# Altium integrated library Microchip dsPIC33F.IntLib: 775 symbols (part 8 of 44)
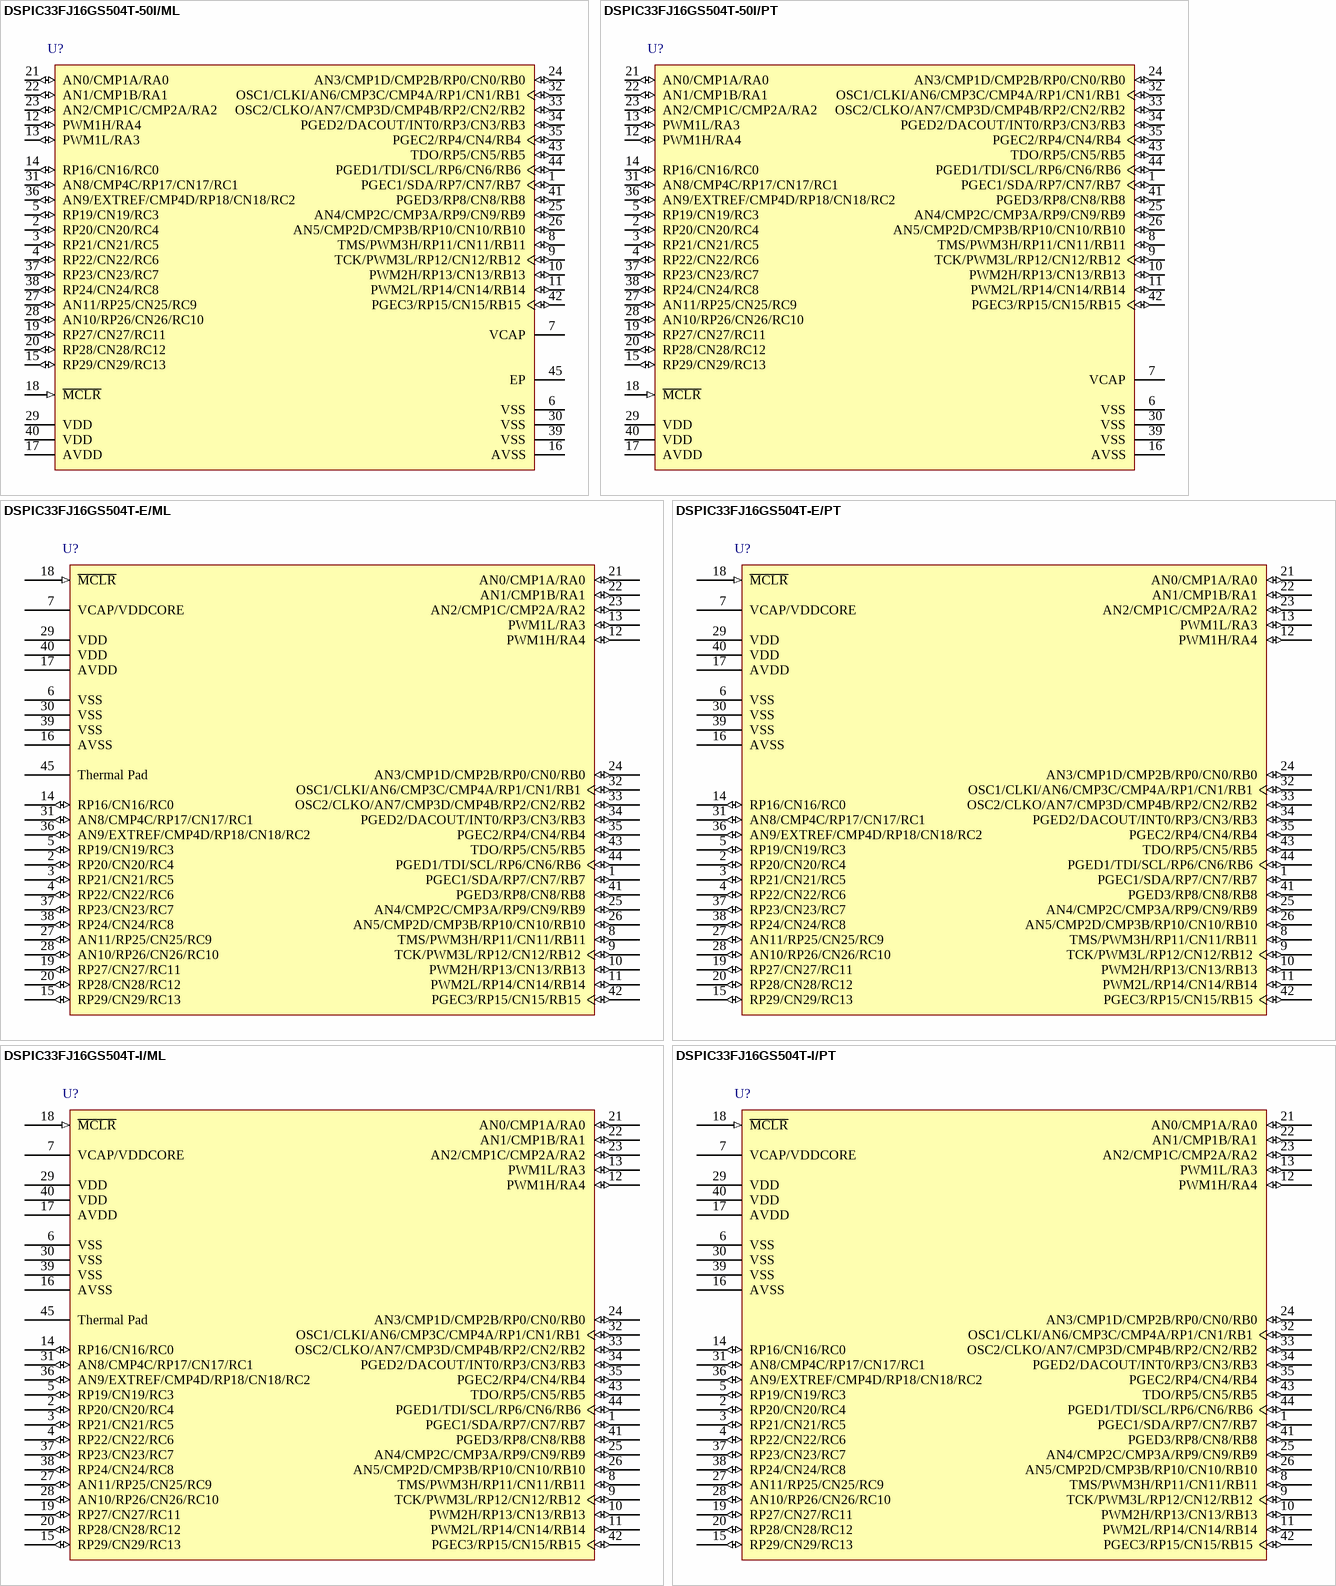
[diagram p165: symbols DSPIC33FJ16GS504T-50I/ML to DSPIC33FJ16GS504T-I/PT]

## DSPIC33FJ16GS504T-50I/PT
designator U?
16-Bit Digital Signal Controller with High-Speed PWM, ADC, and Comparators, 50 MIPS, 35 I/O, GPIO, -40 to 85 degC, 44-pin TQFP (PT44), Tape and Reel; Manufacturer: Microchip; PartNumber: DSPIC33FJ16GS504T-50I/PT; DatasheetVersion: Rev. F; PackageVersion: C04-076B; PackageReference: TQFP-PT44; PackageDescription: 44-Lead Plastic Thin Quad Flatpack, 10 x 10 mm Body, 0.8 mm Pitch; Supplier 1: Digi-Key; Supplier Part Number 1: DSPIC33FJ16GS504T-50I/PT-ND; Supplier 2: Newark; Supplier Part Number 2: 94T7377; Supplier 3: Mouser; Supplier Part Number 3: 579-33J16GS504T50IPT; Mounting Technology: Surface Mount; ComponentLink1Description: Manufacturer URL; ComponentLink1URL: http://www.microchip.com; ComponentLink2Description: Datasheet; ComponentLink2URL: http://ww1.microchip.com/downloads/en/DeviceDoc/70318F.pdf; ComponentLink3Description: Package Specification; ComponentLink3URL: http://www.microchip.com/stellent/groups/techpub_sg/documents/packagingspec/en012702.pdf; ComponentLink4Description: Product URL; ComponentLink4URL: http://www.microchip.com/dsPIC33FJ16GS504
footprint MCHP-TQFP-PT44_N (QFN, 44-Leads, Body 10x10mm, Pitch 0.8mm, IPC Medium Density)
footprint MCHP-TQFP-PT44_L (QFN, 44-Leads, Body 10x10mm, Pitch 0.8mm, IPC High Density)
footprint MCHP-TQFP-PT44_M (QFN, 44-Leads, Body 10x10mm, Pitch 0.8mm, IPC Low Density)
pins: 1 PGEC1/SDA/RP7/CN7/RB7 (io), 2 RP20/CN20/RC4 (io), 3 RP21/CN21/RC5 (io), 4 RP22/CN22/RC6 (io), 5 RP19/CN19/RC3 (io), 6 VSS (power) "Ground reference for logic and I/O pins.", 7 VCAP "CPU logic filter capacitor connection.", 8 TMS/PWM3H/RP11/CN11/RB11 (io), 9 TCK/PWM3L/RP12/CN12/RB12 (io), 10 PWM2H/RP13/CN13/RB13 (io), 11 PWM2L/RP14/CN14/RB14 (io), 12 PWM1H/RA4 (io), 13 PWM1L/RA3 (io), 14 RP16/CN16/RC0 (io), 15 RP29/CN29/RC13 (io), 16 AVSS (power) "Ground reference for analog modules. This pin must be connected at all times.", 17 AVDD (power) "Positive supply for analog modules. This pin must be connected at all times.", 18 ~{MCLR} (in) "Master Clear (Reset) input. This pin is an active-low Reset to the device.", 19 RP27/CN27/RC11 (io), 20 RP28/CN28/RC12 (io), 21 AN0/CMP1A/RA0 (io), 22 AN1/CMP1B/RA1 (io), 23 AN2/CMP1C/CMP2A/RA2 (io), 24 AN3/CMP1D/CMP2B/RP0/CN0/RB0 (io), 25 AN4/CMP2C/CMP3A/RP9/CN9/RB9 (io), 26 AN5/CMP2D/CMP3B/RP10/CN10/RB10 (io), 27 AN11/RP25/CN25/RC9 (io), 28 AN10/RP26/CN26/RC10 (io), 29 VDD (power) "Positive supply for peripheral logic and I/O pins.", 30 VSS (power) "Ground reference for logic and I/O pins.", 31 AN8/CMP4C/RP17/CN17/RC1 (io), 32 OSC1/CLKI/AN6/CMP3C/CMP4A/RP1/CN1/RB1 (io), 33 OSC2/CLKO/AN7/CMP3D/CMP4B/RP2/CN2/RB2 (io), 34 PGED2/DACOUT/INT0/RP3/CN3/RB3 (io), 35 PGEC2/RP4/CN4/RB4 (io), 36 AN9/EXTREF/CMP4D/RP18/CN18/RC2 (io), 37 RP23/CN23/RC7 (io), 38 RP24/CN24/RC8 (io), 39 VSS (power) "Ground Reference for Logic and I/O Pins", 40 VDD (power) "Positive Supply for Peripheral Digital Logic and I/O Pins", 41 PGED3/RP8/CN8/RB8 (io), 42 PGEC3/RP15/CN15/RB15 (io), 43 TDO/RP5/CN5/RB5 (io), 44 PGED1/TDI/SCL/RP6/CN6/RB6 (io)

## DSPIC33FJ16GS504T-E/ML
designator U?
High-Performance 16-bit Digital Signal Controller, 16 KB Flash, 2 KB RAM , 44-Pin QFN, Extended High Temperature , Tape and Reel; Manufacturer: Microchip; PartNumber: DSPIC33FJ16GS504T-E/ML; DatasheetVersion: revD, Mar-2009; PackageVersion: revBB, Aug-2009; PackageReference: QFN-ML44; PackageDescription: 44-Lead Plastic Quad Flat, No Lead Package (ML) - 8x8 mm Body [QFN]; Mounting Technology: Surface Mount; Code_JEDEC: MO-220; Code_IPC: QFN65P800X800-44V2; ComponentLink1Description: Manufacturer URL; ComponentLink1URL: http://www.microchip.com/; ComponentLink2Description: Datasheet; ComponentLink2URL: http://ww1.microchip.com/downloads/en/DeviceDoc/70318D.pdf; ComponentLink3Description: Package Specification; ComponentLink3URL: http://www.microchip.com/stellent/groups/techpub_sg/documents/packagingspec/en012702.pdf
footprint QFN-ML44_N (QFN, 44-Leads, Body 8x8mm, Pitch 0.65mm, Thermal Pad 6.8x6.8mm, IPC Medium Density)
footprint QFN-ML44_L (QFN, 44-Leads, Body 8x8mm, Pitch 0.65mm, Thermal Pad 6.8x6.8mm, IPC High Density)
footprint QFN-ML44_M (QFN, 44-Leads, Body 8x8mm, Pitch 0.65mm, Thermal Pad 6.8x6.8mm, IPC Low Density)
pins: 1 PGEC1/SDA/RP7/CN7/RB7 (io), 2 RP20/CN20/RC4 (io), 3 RP21/CN21/RC5 (io), 4 RP22/CN22/RC6 (io), 5 RP19/CN19/RC3 (io), 6 VSS (power), 7 VCAP/VDDCORE (power), 8 TMS/PWM3H/RP11/CN11/RB11 (io), 9 TCK/PWM3L/RP12/CN12/RB12 (io), 10 PWM2H/RP13/CN13/RB13 (io), 11 PWM2L/RP14/CN14/RB14 (io), 12 PWM1H/RA4 (io), 13 PWM1L/RA3 (io), 14 RP16/CN16/RC0 (io), 15 RP29/CN29/RC13 (io), 16 AVSS (power), 17 AVDD (power), 18 ~{MCLR} (in), 19 RP27/CN27/RC11 (io), 20 RP28/CN28/RC12 (io), 21 AN0/CMP1A/RA0 (io), 22 AN1/CMP1B/RA1 (io), 23 AN2/CMP1C/CMP2A/RA2 (io), 24 AN3/CMP1D/CMP2B/RP0/CN0/RB0 (io), 25 AN4/CMP2C/CMP3A/RP9/CN9/RB9 (io), 26 AN5/CMP2D/CMP3B/RP10/CN10/RB10 (io), 27 AN11/RP25/CN25/RC9 (io), 28 AN10/RP26/CN26/RC10 (io), 29 VDD (power), 30 VSS (power), 31 AN8/CMP4C/RP17/CN17/RC1 (io), 32 OSC1/CLKI/AN6/CMP3C/CMP4A/RP1/CN1/RB1 (io), 33 OSC2/CLKO/AN7/CMP3D/CMP4B/RP2/CN2/RB2 (io), 34 PGED2/DACOUT/INT0/RP3/CN3/RB3 (io), 35 PGEC2/RP4/CN4/RB4 (io), 36 AN9/EXTREF/CMP4D/RP18/CN18/RC2 (io), 37 RP23/CN23/RC7 (io), 38 RP24/CN24/RC8 (io), 39 VSS (power), 40 VDD (power), 41 PGED3/RP8/CN8/RB8 (io), 42 PGEC3/RP15/CN15/RB15 (io), 43 TDO/RP5/CN5/RB5 (io), 44 PGED1/TDI/SCL/RP6/CN6/RB6 (io), 45 Thermal Pad

## DSPIC33FJ16GS504T-E/PT
designator U?
High-Performance 16-bit Digital Signal Controller, 16 KB Flash, 2 KB RAM , 44-Pin TQFP, Extended High Temperature , Tape and Reel; Manufacturer: Microchip; PartNumber: DSPIC33FJ16GS504T-E/PT; DatasheetVersion: revD, Mar-2009; PackageVersion: revBB, Aug-2009; PackageReference: TQFP-PT44; PackageDescription: 44-Lead Plastic Thin Quad Flatpack (PT) - 10x10x1mm Body, 2.00mm [TQFP]; Mounting Technology: Surface Mount; Code_JEDEC: MS-026; ComponentLink1Description: Manufacturer URL; ComponentLink1URL: http://www.microchip.com/; ComponentLink2Description: Datasheet; ComponentLink2URL: http://ww1.microchip.com/downloads/en/DeviceDoc/70318D.pdf; ComponentLink3Description: Package Specification; ComponentLink3URL: http://www.microchip.com/stellent/groups/techpub_sg/documents/packagingspec/en012702.pdf
footprint TQFP-PT44_N (Thin QFP, 44-Leads, Body 10x10mm, Pitch 0.8mm, IPC Medium Density)
footprint TQFP-PT44_L (Thin QFP, 44-Leads, Body 10x10mm, Pitch 0.8mm, IPC High Density)
footprint TQFP-PT44_M (Thin QFP, 44-Leads, Body 10x10mm, Pitch 0.8mm, IPC Low Density)
pins: 1 PGEC1/SDA/RP7/CN7/RB7 (io), 2 RP20/CN20/RC4 (io), 3 RP21/CN21/RC5 (io), 4 RP22/CN22/RC6 (io), 5 RP19/CN19/RC3 (io), 6 VSS (power), 7 VCAP/VDDCORE (power), 8 TMS/PWM3H/RP11/CN11/RB11 (io), 9 TCK/PWM3L/RP12/CN12/RB12 (io), 10 PWM2H/RP13/CN13/RB13 (io), 11 PWM2L/RP14/CN14/RB14 (io), 12 PWM1H/RA4 (io), 13 PWM1L/RA3 (io), 14 RP16/CN16/RC0 (io), 15 RP29/CN29/RC13 (io), 16 AVSS (power), 17 AVDD (power), 18 ~{MCLR} (in), 19 RP27/CN27/RC11 (io), 20 RP28/CN28/RC12 (io), 21 AN0/CMP1A/RA0 (io), 22 AN1/CMP1B/RA1 (io), 23 AN2/CMP1C/CMP2A/RA2 (io), 24 AN3/CMP1D/CMP2B/RP0/CN0/RB0 (io), 25 AN4/CMP2C/CMP3A/RP9/CN9/RB9 (io), 26 AN5/CMP2D/CMP3B/RP10/CN10/RB10 (io), 27 AN11/RP25/CN25/RC9 (io), 28 AN10/RP26/CN26/RC10 (io), 29 VDD (power), 30 VSS (power), 31 AN8/CMP4C/RP17/CN17/RC1 (io), 32 OSC1/CLKI/AN6/CMP3C/CMP4A/RP1/CN1/RB1 (io), 33 OSC2/CLKO/AN7/CMP3D/CMP4B/RP2/CN2/RB2 (io), 34 PGED2/DACOUT/INT0/RP3/CN3/RB3 (io), 35 PGEC2/RP4/CN4/RB4 (io), 36 AN9/EXTREF/CMP4D/RP18/CN18/RC2 (io), 37 RP23/CN23/RC7 (io), 38 RP24/CN24/RC8 (io), 39 VSS (power), 40 VDD (power), 41 PGED3/RP8/CN8/RB8 (io), 42 PGEC3/RP15/CN15/RB15 (io), 43 TDO/RP5/CN5/RB5 (io), 44 PGED1/TDI/SCL/RP6/CN6/RB6 (io)

## DSPIC33FJ16GS504T-I/ML
designator U?
High-Performance 16-bit Digital Signal Controller, 16 KB Flash, 2 KB RAM , 44-Pin QFN, Industrial Temperature , Tape and Reel; Manufacturer: Microchip; PartNumber: DSPIC33FJ16GS504T-I/ML; DatasheetVersion: revD, Mar-2009; PackageVersion: revBB, Aug-2009; PackageReference: QFN-ML44; PackageDescription: 44-Lead Plastic Quad Flat, No Lead Package (ML) - 8x8 mm Body [QFN]; Supplier 1: Digi-Key; Supplier Part Number 1: DSPIC33FJ16GS504T-I/ML-ND; Supplier 2: Mouser; Supplier Part Number 2: 579-DSPIC33GS504TIML; Mounting Technology: Surface Mount; Code_JEDEC: MO-220; Code_IPC: QFN65P800X800-44V2; ComponentLink1Description: Manufacturer URL; ComponentLink1URL: http://www.microchip.com/; ComponentLink2Description: Datasheet; ComponentLink2URL: http://ww1.microchip.com/downloads/en/DeviceDoc/70318D.pdf; ComponentLink3Description: Package Specification; ComponentLink3URL: http://www.microchip.com/stellent/groups/techpub_sg/documents/packagingspec/en012702.pdf
footprint QFN-ML44_N (QFN, 44-Leads, Body 8x8mm, Pitch 0.65mm, Thermal Pad 6.8x6.8mm, IPC Medium Density)
footprint QFN-ML44_L (QFN, 44-Leads, Body 8x8mm, Pitch 0.65mm, Thermal Pad 6.8x6.8mm, IPC High Density)
footprint QFN-ML44_M (QFN, 44-Leads, Body 8x8mm, Pitch 0.65mm, Thermal Pad 6.8x6.8mm, IPC Low Density)
pins: 1 PGEC1/SDA/RP7/CN7/RB7 (io), 2 RP20/CN20/RC4 (io), 3 RP21/CN21/RC5 (io), 4 RP22/CN22/RC6 (io), 5 RP19/CN19/RC3 (io), 6 VSS (power), 7 VCAP/VDDCORE (power), 8 TMS/PWM3H/RP11/CN11/RB11 (io), 9 TCK/PWM3L/RP12/CN12/RB12 (io), 10 PWM2H/RP13/CN13/RB13 (io), 11 PWM2L/RP14/CN14/RB14 (io), 12 PWM1H/RA4 (io), 13 PWM1L/RA3 (io), 14 RP16/CN16/RC0 (io), 15 RP29/CN29/RC13 (io), 16 AVSS (power), 17 AVDD (power), 18 ~{MCLR} (in), 19 RP27/CN27/RC11 (io), 20 RP28/CN28/RC12 (io), 21 AN0/CMP1A/RA0 (io), 22 AN1/CMP1B/RA1 (io), 23 AN2/CMP1C/CMP2A/RA2 (io), 24 AN3/CMP1D/CMP2B/RP0/CN0/RB0 (io), 25 AN4/CMP2C/CMP3A/RP9/CN9/RB9 (io), 26 AN5/CMP2D/CMP3B/RP10/CN10/RB10 (io), 27 AN11/RP25/CN25/RC9 (io), 28 AN10/RP26/CN26/RC10 (io), 29 VDD (power), 30 VSS (power), 31 AN8/CMP4C/RP17/CN17/RC1 (io), 32 OSC1/CLKI/AN6/CMP3C/CMP4A/RP1/CN1/RB1 (io), 33 OSC2/CLKO/AN7/CMP3D/CMP4B/RP2/CN2/RB2 (io), 34 PGED2/DACOUT/INT0/RP3/CN3/RB3 (io), 35 PGEC2/RP4/CN4/RB4 (io), 36 AN9/EXTREF/CMP4D/RP18/CN18/RC2 (io), 37 RP23/CN23/RC7 (io), 38 RP24/CN24/RC8 (io), 39 VSS (power), 40 VDD (power), 41 PGED3/RP8/CN8/RB8 (io), 42 PGEC3/RP15/CN15/RB15 (io), 43 TDO/RP5/CN5/RB5 (io), 44 PGED1/TDI/SCL/RP6/CN6/RB6 (io), 45 Thermal Pad

## DSPIC33FJ16GS504T-I/PT
designator U?
High-Performance 16-bit Digital Signal Controller, 16 KB Flash, 2 KB RAM , 44-Pin TQFP, Industrial Temperature , Tape and Reel; Manufacturer: Microchip; PartNumber: DSPIC33FJ16GS504T-I/PT; DatasheetVersion: revD, Mar-2009; PackageVersion: revBB, Aug-2009; PackageReference: TQFP-PT44; PackageDescription: 44-Lead Plastic Thin Quad Flatpack (PT) - 10x10x1mm Body, 2.00mm [TQFP]; Supplier 1: Digi-Key; Supplier Part Number 1: DSPIC33FJ16GS504T-I/PT-ND; Supplier 2: Mouser; Supplier Part Number 2: 579-DSPIC33GS504TIPT; Mounting Technology: Surface Mount; Code_JEDEC: MS-026; ComponentLink1Description: Manufacturer URL; ComponentLink1URL: http://www.microchip.com/; ComponentLink2Description: Datasheet; ComponentLink2URL: http://ww1.microchip.com/downloads/en/DeviceDoc/70318D.pdf; ComponentLink3Description: Package Specification; ComponentLink3URL: http://www.microchip.com/stellent/groups/techpub_sg/documents/packagingspec/en012702.pdf
footprint TQFP-PT44_N (Thin QFP, 44-Leads, Body 10x10mm, Pitch 0.8mm, IPC Medium Density)
footprint TQFP-PT44_L (Thin QFP, 44-Leads, Body 10x10mm, Pitch 0.8mm, IPC High Density)
footprint TQFP-PT44_M (Thin QFP, 44-Leads, Body 10x10mm, Pitch 0.8mm, IPC Low Density)
pins: 1 PGEC1/SDA/RP7/CN7/RB7 (io), 2 RP20/CN20/RC4 (io), 3 RP21/CN21/RC5 (io), 4 RP22/CN22/RC6 (io), 5 RP19/CN19/RC3 (io), 6 VSS (power), 7 VCAP/VDDCORE (power), 8 TMS/PWM3H/RP11/CN11/RB11 (io), 9 TCK/PWM3L/RP12/CN12/RB12 (io), 10 PWM2H/RP13/CN13/RB13 (io), 11 PWM2L/RP14/CN14/RB14 (io), 12 PWM1H/RA4 (io), 13 PWM1L/RA3 (io), 14 RP16/CN16/RC0 (io), 15 RP29/CN29/RC13 (io), 16 AVSS (power), 17 AVDD (power), 18 ~{MCLR} (in), 19 RP27/CN27/RC11 (io), 20 RP28/CN28/RC12 (io), 21 AN0/CMP1A/RA0 (io), 22 AN1/CMP1B/RA1 (io), 23 AN2/CMP1C/CMP2A/RA2 (io), 24 AN3/CMP1D/CMP2B/RP0/CN0/RB0 (io), 25 AN4/CMP2C/CMP3A/RP9/CN9/RB9 (io), 26 AN5/CMP2D/CMP3B/RP10/CN10/RB10 (io), 27 AN11/RP25/CN25/RC9 (io), 28 AN10/RP26/CN26/RC10 (io), 29 VDD (power), 30 VSS (power), 31 AN8/CMP4C/RP17/CN17/RC1 (io), 32 OSC1/CLKI/AN6/CMP3C/CMP4A/RP1/CN1/RB1 (io), 33 OSC2/CLKO/AN7/CMP3D/CMP4B/RP2/CN2/RB2 (io), 34 PGED2/DACOUT/INT0/RP3/CN3/RB3 (io), 35 PGEC2/RP4/CN4/RB4 (io), 36 AN9/EXTREF/CMP4D/RP18/CN18/RC2 (io), 37 RP23/CN23/RC7 (io), 38 RP24/CN24/RC8 (io), 39 VSS (power), 40 VDD (power), 41 PGED3/RP8/CN8/RB8 (io), 42 PGEC3/RP15/CN15/RB15 (io), 43 TDO/RP5/CN5/RB5 (io), 44 PGED1/TDI/SCL/RP6/CN6/RB6 (io)

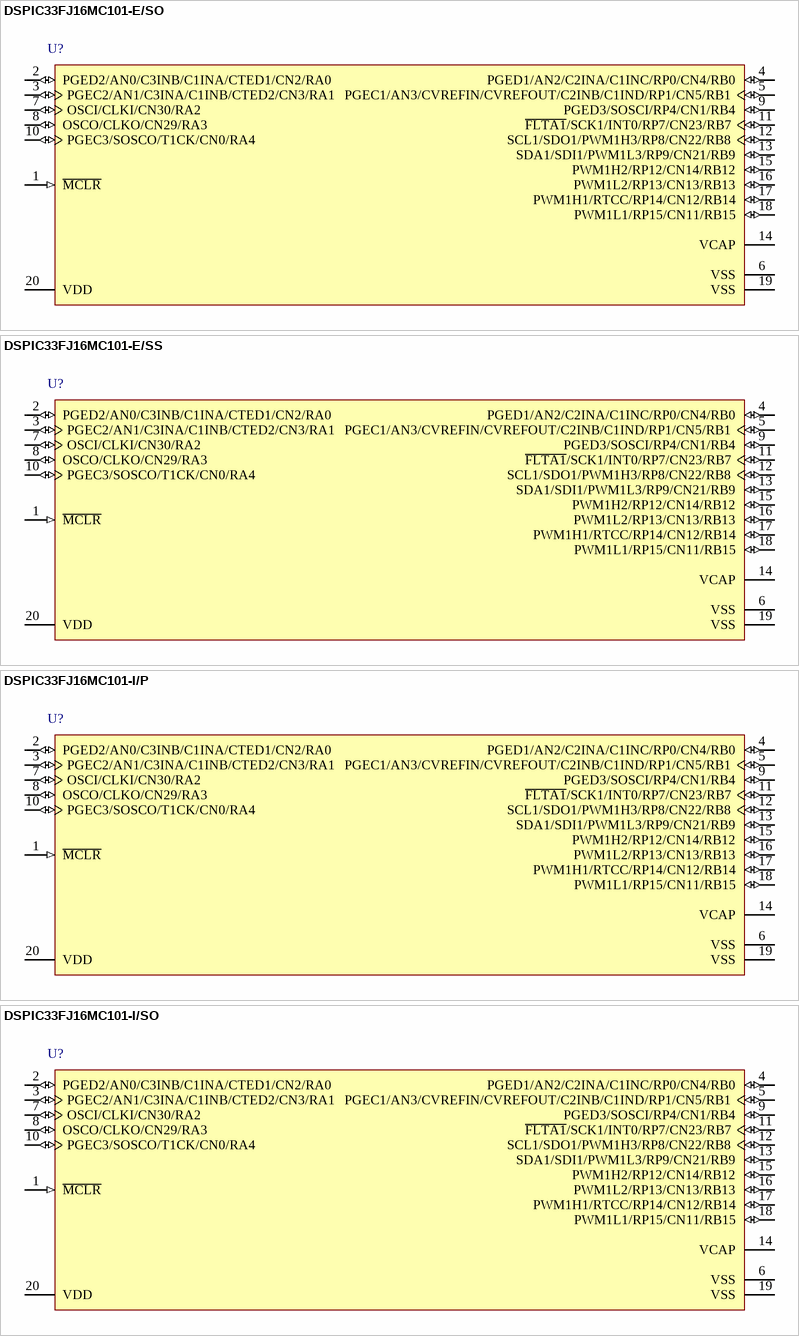
[diagram p19: symbols DSPIC33FJ16MC101-E/SO to DSPIC33FJ16MC101-I/SO]

## DSPIC33FJ16MC101-E/SO
designator U?
16-Bit Microcontroller, 16 MIPS, 15 I/O, GPIO, -40 to 125 degC, 20-pin SOIC (SO20), Tube; Manufacturer: Microchip; PartNumber: DSPIC33FJ16MC101-E/SO; DatasheetVersion: Rev. E; PackageVersion: C04-094C; PackageReference: SOIC-SO20; PackageDescription: 20-Lead Plastic Small Outline, 7.5 x 12.8 mm Body, 1.27 mm Pitch; Supplier 1: Digi-Key; Supplier Part Number 1: DSPIC33FJ16MC101-E/SO-ND; Supplier 2: Mouser; Supplier Part Number 2: 579-33FJ16MC101ESO; Mounting Technology: Surface Mount; ComponentLink1Description: Manufacturer URL; ComponentLink1URL: http://www.microchip.com; ComponentLink2Description: Datasheet; ComponentLink2URL: http://ww1.microchip.com/downloads/en/DeviceDoc/70652e.pdf; ComponentLink3Description: Package Specification; ComponentLink3URL: http://www.microchip.com/stellent/groups/techpub_sg/documents/packagingspec/en012702.pdf; ComponentLink4Description: Product URL; ComponentLink4URL: http://www.microchip.com/dsPIC33FJ16MC101
footprint MCHP-SOIC-SO20_N (SOIC, 20-Leads, Body 12.8x7.5mm, Pitch 1.27mm, , IPC Medium Density)
footprint MCHP-SOIC-SO20_L (SOIC, 20-Leads, Body 12.8x7.5mm, Pitch 1.27mm, , IPC High Density)
footprint MCHP-SOIC-SO20_M (SOIC, 20-Leads, Body 12.8x7.5mm, Pitch 1.27mm, , IPC Low Density)
pins: 1 ~{MCLR} (in) "Master Clear (Reset) input. This pin is an active-low Reset to the device.", 2 PGED2/AN0/C3INB/C1INA/CTED1/CN2/RA0 (io), 3 PGEC2/AN1/C3INA/C1INB/CTED2/CN3/RA1 (io), 4 PGED1/AN2/C2INA/C1INC/RP0/CN4/RB0 (io), 5 PGEC1/AN3/CVREFIN/CVREFOUT/C2INB/C1IND/RP1/CN5/RB1 (io), 6 VSS (power) "Ground reference for logic and I/O pins", 7 OSCI/CLKI/CN30/RA2 (io), 8 OSCO/CLKO/CN29/RA3 (io), 9 PGED3/SOSCI/RP4/CN1/RB4 (io), 10 PGEC3/SOSCO/T1CK/CN0/RA4 (io), 11 ~{FLTA1}/SCK1/INT0/RP7/CN23/RB7 (io), 12 SCL1/SDO1/PWM1H3/RP8/CN22/RB8 (io), 13 SDA1/SDI1/PWM1L3/RP9/CN21/RB9 (io), 14 VCAP "CPU logic filter capacitor connection.", 15 PWM1H2/RP12/CN14/RB12 (io), 16 PWM1L2/RP13/CN13/RB13 (io), 17 PWM1H1/RTCC/RP14/CN12/RB14 (io), 18 PWM1L1/RP15/CN11/RB15 (io), 19 VSS (power) "Ground reference for logic and I/O pins", 20 VDD (power) "Positive supply for peripheral logic and I/O pins."

## DSPIC33FJ16MC101-E/SS
designator U?
16-Bit Microcontroller, 16 MIPS, 15 I/O, GPIO, -40 to 125 degC, 20-pin SSOP (SS20), Tube; Manufacturer: Microchip; PartNumber: DSPIC33FJ16MC101-E/SS; DatasheetVersion: Rev. E; PackageVersion: C04-072B; PackageReference: SSOP-SS20; PackageDescription: 20-Lead Plastic Shrink Small Outline, 5.3 x 7.2 mm Body, 0.65 mm Pitch; Supplier 1: Digi-Key; Supplier Part Number 1: DSPIC33FJ16MC101-E/SS-ND; Supplier 2: Mouser; Supplier Part Number 2: 579-33FJ16MC101ESS; Mounting Technology: Surface Mount; ComponentLink1Description: Manufacturer URL; ComponentLink1URL: http://www.microchip.com; ComponentLink2Description: Datasheet; ComponentLink2URL: http://ww1.microchip.com/downloads/en/DeviceDoc/70652e.pdf; ComponentLink3Description: Package Specification; ComponentLink3URL: http://www.microchip.com/stellent/groups/techpub_sg/documents/packagingspec/en012702.pdf; ComponentLink4Description: Product URL; ComponentLink4URL: http://www.microchip.com/dsPIC33FJ16MC101
footprint MCHP-SSOP-SS20_N (SOP, 20-Leads, Body 7.2x5.3mm, Pitch 0.65mm, IPC Medium Density)
footprint MCHP-SSOP-SS20_L (SOP, 20-Leads, Body 7.2x5.3mm, Pitch 0.65mm, IPC High Density)
footprint MCHP-SSOP-SS20_M (SOP, 20-Leads, Body 7.2x5.3mm, Pitch 0.65mm, IPC Low Density)
pins: 1 ~{MCLR} (in) "Master Clear (Reset) input. This pin is an active-low Reset to the device.", 2 PGED2/AN0/C3INB/C1INA/CTED1/CN2/RA0 (io), 3 PGEC2/AN1/C3INA/C1INB/CTED2/CN3/RA1 (io), 4 PGED1/AN2/C2INA/C1INC/RP0/CN4/RB0 (io), 5 PGEC1/AN3/CVREFIN/CVREFOUT/C2INB/C1IND/RP1/CN5/RB1 (io), 6 VSS (power) "Ground reference for logic and I/O pins", 7 OSCI/CLKI/CN30/RA2 (io), 8 OSCO/CLKO/CN29/RA3 (io), 9 PGED3/SOSCI/RP4/CN1/RB4 (io), 10 PGEC3/SOSCO/T1CK/CN0/RA4 (io), 11 ~{FLTA1}/SCK1/INT0/RP7/CN23/RB7 (io), 12 SCL1/SDO1/PWM1H3/RP8/CN22/RB8 (io), 13 SDA1/SDI1/PWM1L3/RP9/CN21/RB9 (io), 14 VCAP "CPU logic filter capacitor connection.", 15 PWM1H2/RP12/CN14/RB12 (io), 16 PWM1L2/RP13/CN13/RB13 (io), 17 PWM1H1/RTCC/RP14/CN12/RB14 (io), 18 PWM1L1/RP15/CN11/RB15 (io), 19 VSS (power) "Ground reference for logic and I/O pins", 20 VDD (power) "Positive supply for peripheral logic and I/O pins."

## DSPIC33FJ16MC101-I/P
designator U?
16-Bit Microcontroller, 16 MIPS, 15 I/O, GPIO, -40 to 85 degC, 20-pin PDIP (P20), Tube; Manufacturer: Microchip; PartNumber: DSPIC33FJ16MC101-I/P; DatasheetVersion: Rev. E; PackageVersion: C04-019B; PackageReference: PDIP-P20; PackageDescription: 20-Pin Plastic Dual In-Line, Row Spacing 7.62 mm, 25.91 x 6.6 mm Body, 2.54 mm Pitch; Supplier 1: Digi-Key; Supplier Part Number 1: DSPIC33FJ16MC101-I/P-ND; Supplier 2: Farnell; Supplier Part Number 2: 2077453; Supplier 3: Newark; Supplier Part Number 3: 79T4713; Supplier 4: Mouser; Supplier Part Number 4: 579-33FJ16MC101IP; Mounting Technology: Through Hole; ComponentLink1Description: Manufacturer URL; ComponentLink1URL: http://www.microchip.com; ComponentLink2Description: Datasheet; ComponentLink2URL: http://ww1.microchip.com/downloads/en/DeviceDoc/70652e.pdf; ComponentLink3Description: Package Specification; ComponentLink3URL: http://www.microchip.com/stellent/groups/techpub_sg/documents/packagingspec/en012702.pdf; ComponentLink4Description: Product URL; ComponentLink4URL: http://www.microchip.com/dsPIC33FJ16MC101
footprint MCHP-PDIP-P20 (DIP, 20-Leads, Body 25.91x6.6mm, Pitch 2.54mm)
pins: 1 ~{MCLR} (in) "Master Clear (Reset) input. This pin is an active-low Reset to the device.", 2 PGED2/AN0/C3INB/C1INA/CTED1/CN2/RA0 (io), 3 PGEC2/AN1/C3INA/C1INB/CTED2/CN3/RA1 (io), 4 PGED1/AN2/C2INA/C1INC/RP0/CN4/RB0 (io), 5 PGEC1/AN3/CVREFIN/CVREFOUT/C2INB/C1IND/RP1/CN5/RB1 (io), 6 VSS (power) "Ground reference for logic and I/O pins", 7 OSCI/CLKI/CN30/RA2 (io), 8 OSCO/CLKO/CN29/RA3 (io), 9 PGED3/SOSCI/RP4/CN1/RB4 (io), 10 PGEC3/SOSCO/T1CK/CN0/RA4 (io), 11 ~{FLTA1}/SCK1/INT0/RP7/CN23/RB7 (io), 12 SCL1/SDO1/PWM1H3/RP8/CN22/RB8 (io), 13 SDA1/SDI1/PWM1L3/RP9/CN21/RB9 (io), 14 VCAP "CPU logic filter capacitor connection.", 15 PWM1H2/RP12/CN14/RB12 (io), 16 PWM1L2/RP13/CN13/RB13 (io), 17 PWM1H1/RTCC/RP14/CN12/RB14 (io), 18 PWM1L1/RP15/CN11/RB15 (io), 19 VSS (power) "Ground reference for logic and I/O pins", 20 VDD (power) "Positive supply for peripheral logic and I/O pins."

## DSPIC33FJ16MC101-I/SO
designator U?
16-Bit Microcontroller, 16 MIPS, 15 I/O, GPIO, -40 to 85 degC, 20-pin SOIC (SO20), Tube; Manufacturer: Microchip; PartNumber: DSPIC33FJ16MC101-I/SO; DatasheetVersion: Rev. E; PackageVersion: C04-094C; PackageReference: SOIC-SO20; PackageDescription: 20-Lead Plastic Small Outline, 7.5 x 12.8 mm Body, 1.27 mm Pitch; Supplier 1: Digi-Key; Supplier Part Number 1: DSPIC33FJ16MC101-I/SO-ND; Supplier 2: Farnell; Supplier Part Number 2: 2077454; Supplier 3: Mouser; Supplier Part Number 3: 579-33FJ16MC101ISO; Mounting Technology: Surface Mount; ComponentLink1Description: Manufacturer URL; ComponentLink1URL: http://www.microchip.com; ComponentLink2Description: Datasheet; ComponentLink2URL: http://ww1.microchip.com/downloads/en/DeviceDoc/70652e.pdf; ComponentLink3Description: Package Specification; ComponentLink3URL: http://www.microchip.com/stellent/groups/techpub_sg/documents/packagingspec/en012702.pdf; ComponentLink4Description: Product URL; ComponentLink4URL: http://www.microchip.com/dsPIC33FJ16MC101
footprint MCHP-SOIC-SO20_N (SOIC, 20-Leads, Body 12.8x7.5mm, Pitch 1.27mm, , IPC Medium Density)
footprint MCHP-SOIC-SO20_L (SOIC, 20-Leads, Body 12.8x7.5mm, Pitch 1.27mm, , IPC High Density)
footprint MCHP-SOIC-SO20_M (SOIC, 20-Leads, Body 12.8x7.5mm, Pitch 1.27mm, , IPC Low Density)
pins: 1 ~{MCLR} (in) "Master Clear (Reset) input. This pin is an active-low Reset to the device.", 2 PGED2/AN0/C3INB/C1INA/CTED1/CN2/RA0 (io), 3 PGEC2/AN1/C3INA/C1INB/CTED2/CN3/RA1 (io), 4 PGED1/AN2/C2INA/C1INC/RP0/CN4/RB0 (io), 5 PGEC1/AN3/CVREFIN/CVREFOUT/C2INB/C1IND/RP1/CN5/RB1 (io), 6 VSS (power) "Ground reference for logic and I/O pins", 7 OSCI/CLKI/CN30/RA2 (io), 8 OSCO/CLKO/CN29/RA3 (io), 9 PGED3/SOSCI/RP4/CN1/RB4 (io), 10 PGEC3/SOSCO/T1CK/CN0/RA4 (io), 11 ~{FLTA1}/SCK1/INT0/RP7/CN23/RB7 (io), 12 SCL1/SDO1/PWM1H3/RP8/CN22/RB8 (io), 13 SDA1/SDI1/PWM1L3/RP9/CN21/RB9 (io), 14 VCAP "CPU logic filter capacitor connection.", 15 PWM1H2/RP12/CN14/RB12 (io), 16 PWM1L2/RP13/CN13/RB13 (io), 17 PWM1H1/RTCC/RP14/CN12/RB14 (io), 18 PWM1L1/RP15/CN11/RB15 (io), 19 VSS (power) "Ground reference for logic and I/O pins", 20 VDD (power) "Positive supply for peripheral logic and I/O pins."

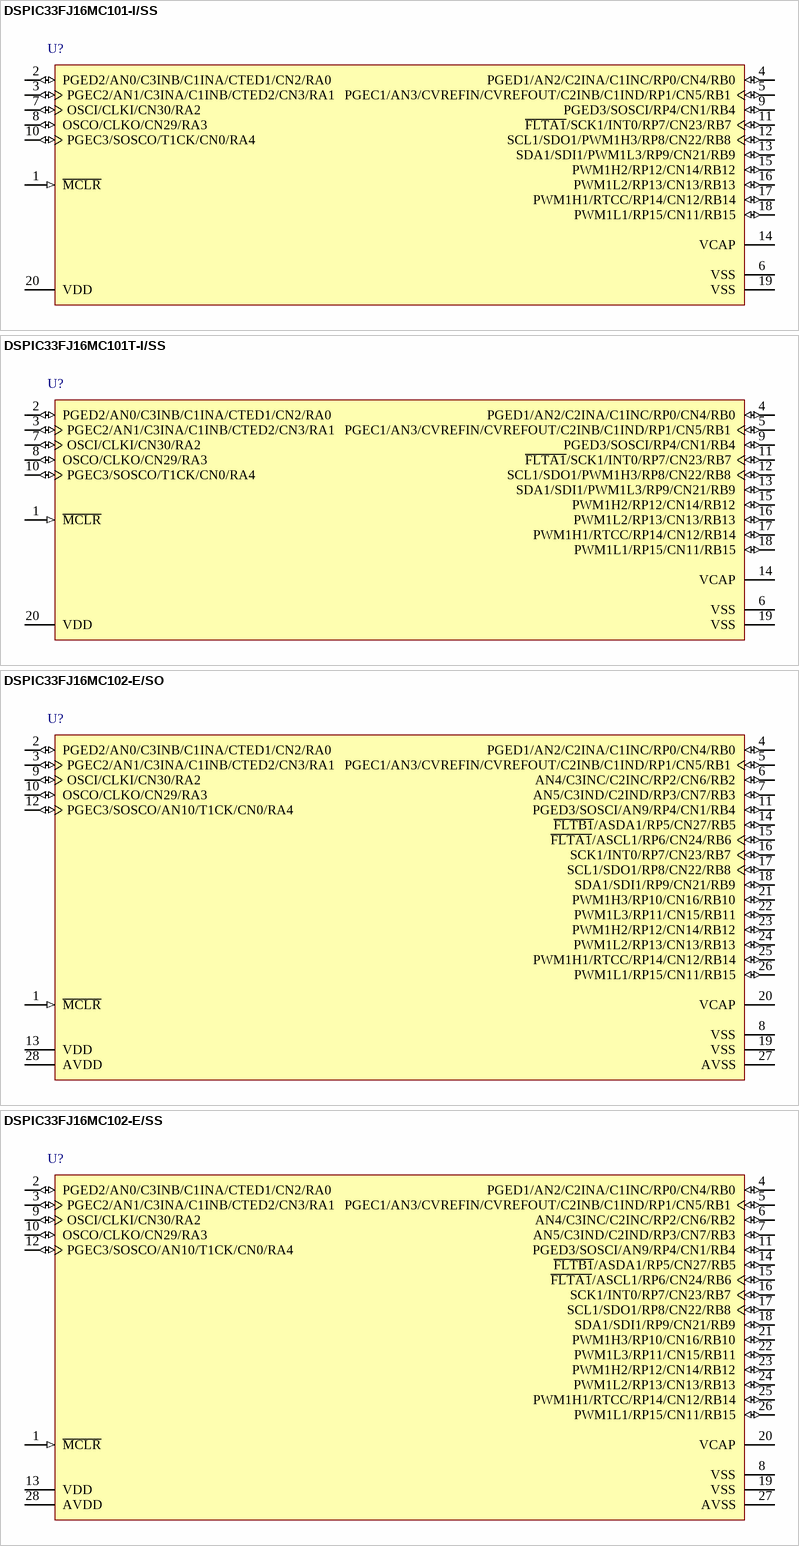
[diagram p20: symbols DSPIC33FJ16MC101-I/SS to DSPIC33FJ16MC102-E/SS]

## DSPIC33FJ16MC101-I/SS
designator U?
16-Bit Microcontroller, 16 MIPS, 15 I/O, GPIO, -40 to 85 degC, 20-pin SSOP (SS20), Tube; Manufacturer: Microchip; PartNumber: DSPIC33FJ16MC101-I/SS; DatasheetVersion: Rev. E; PackageVersion: C04-072B; PackageReference: SSOP-SS20; PackageDescription: 20-Lead Plastic Shrink Small Outline, 5.3 x 7.2 mm Body, 0.65 mm Pitch; Supplier 1: Digi-Key; Supplier Part Number 1: DSPIC33FJ16MC101-I/SS-ND; Supplier 2: Farnell; Supplier Part Number 2: 2077455; Supplier 3: Mouser; Supplier Part Number 3: 579-33FJ16MC101ISS; Mounting Technology: Surface Mount; ComponentLink1Description: Manufacturer URL; ComponentLink1URL: http://www.microchip.com; ComponentLink2Description: Datasheet; ComponentLink2URL: http://ww1.microchip.com/downloads/en/DeviceDoc/70652e.pdf; ComponentLink3Description: Package Specification; ComponentLink3URL: http://www.microchip.com/stellent/groups/techpub_sg/documents/packagingspec/en012702.pdf; ComponentLink4Description: Product URL; ComponentLink4URL: http://www.microchip.com/dsPIC33FJ16MC101
footprint MCHP-SSOP-SS20_N (SOP, 20-Leads, Body 7.2x5.3mm, Pitch 0.65mm, IPC Medium Density)
footprint MCHP-SSOP-SS20_L (SOP, 20-Leads, Body 7.2x5.3mm, Pitch 0.65mm, IPC High Density)
footprint MCHP-SSOP-SS20_M (SOP, 20-Leads, Body 7.2x5.3mm, Pitch 0.65mm, IPC Low Density)
pins: 1 ~{MCLR} (in) "Master Clear (Reset) input. This pin is an active-low Reset to the device.", 2 PGED2/AN0/C3INB/C1INA/CTED1/CN2/RA0 (io), 3 PGEC2/AN1/C3INA/C1INB/CTED2/CN3/RA1 (io), 4 PGED1/AN2/C2INA/C1INC/RP0/CN4/RB0 (io), 5 PGEC1/AN3/CVREFIN/CVREFOUT/C2INB/C1IND/RP1/CN5/RB1 (io), 6 VSS (power) "Ground reference for logic and I/O pins", 7 OSCI/CLKI/CN30/RA2 (io), 8 OSCO/CLKO/CN29/RA3 (io), 9 PGED3/SOSCI/RP4/CN1/RB4 (io), 10 PGEC3/SOSCO/T1CK/CN0/RA4 (io), 11 ~{FLTA1}/SCK1/INT0/RP7/CN23/RB7 (io), 12 SCL1/SDO1/PWM1H3/RP8/CN22/RB8 (io), 13 SDA1/SDI1/PWM1L3/RP9/CN21/RB9 (io), 14 VCAP "CPU logic filter capacitor connection.", 15 PWM1H2/RP12/CN14/RB12 (io), 16 PWM1L2/RP13/CN13/RB13 (io), 17 PWM1H1/RTCC/RP14/CN12/RB14 (io), 18 PWM1L1/RP15/CN11/RB15 (io), 19 VSS (power) "Ground reference for logic and I/O pins", 20 VDD (power) "Positive supply for peripheral logic and I/O pins."

## DSPIC33FJ16MC101T-I/SS
designator U?
16-Bit Microcontroller, 16 MIPS, 15 I/O, GPIO, -40 to 85 degC, 20-pin SSOP (SS20), Tape and Reel; Manufacturer: Microchip; PartNumber: DSPIC33FJ16MC101T-I/SS; DatasheetVersion: Rev. E; PackageVersion: C04-072B; PackageReference: SSOP-SS20; PackageDescription: 20-Lead Plastic Shrink Small Outline, 5.3 x 7.2 mm Body, 0.65 mm Pitch; Supplier 1: Digi-Key; Supplier Part Number 1: DSPIC33FJ16MC101T-I/SS-ND; Supplier 2: Mouser; Supplier Part Number 2: 579-33FJ16MC101TISS; Mounting Technology: Surface Mount; ComponentLink1Description: Manufacturer URL; ComponentLink1URL: http://www.microchip.com; ComponentLink2Description: Datasheet; ComponentLink2URL: http://ww1.microchip.com/downloads/en/DeviceDoc/70652e.pdf; ComponentLink3Description: Package Specification; ComponentLink3URL: http://www.microchip.com/stellent/groups/techpub_sg/documents/packagingspec/en012702.pdf; ComponentLink4Description: Product URL; ComponentLink4URL: http://www.microchip.com/dsPIC33FJ16MC101
footprint MCHP-SSOP-SS20_N (SOP, 20-Leads, Body 7.2x5.3mm, Pitch 0.65mm, IPC Medium Density)
footprint MCHP-SSOP-SS20_L (SOP, 20-Leads, Body 7.2x5.3mm, Pitch 0.65mm, IPC High Density)
footprint MCHP-SSOP-SS20_M (SOP, 20-Leads, Body 7.2x5.3mm, Pitch 0.65mm, IPC Low Density)
pins: 1 ~{MCLR} (in) "Master Clear (Reset) input. This pin is an active-low Reset to the device.", 2 PGED2/AN0/C3INB/C1INA/CTED1/CN2/RA0 (io), 3 PGEC2/AN1/C3INA/C1INB/CTED2/CN3/RA1 (io), 4 PGED1/AN2/C2INA/C1INC/RP0/CN4/RB0 (io), 5 PGEC1/AN3/CVREFIN/CVREFOUT/C2INB/C1IND/RP1/CN5/RB1 (io), 6 VSS (power) "Ground reference for logic and I/O pins", 7 OSCI/CLKI/CN30/RA2 (io), 8 OSCO/CLKO/CN29/RA3 (io), 9 PGED3/SOSCI/RP4/CN1/RB4 (io), 10 PGEC3/SOSCO/T1CK/CN0/RA4 (io), 11 ~{FLTA1}/SCK1/INT0/RP7/CN23/RB7 (io), 12 SCL1/SDO1/PWM1H3/RP8/CN22/RB8 (io), 13 SDA1/SDI1/PWM1L3/RP9/CN21/RB9 (io), 14 VCAP "CPU logic filter capacitor connection.", 15 PWM1H2/RP12/CN14/RB12 (io), 16 PWM1L2/RP13/CN13/RB13 (io), 17 PWM1H1/RTCC/RP14/CN12/RB14 (io), 18 PWM1L1/RP15/CN11/RB15 (io), 19 VSS (power) "Ground reference for logic and I/O pins", 20 VDD (power) "Positive supply for peripheral logic and I/O pins."

## DSPIC33FJ16MC102-E/SO
designator U?
16-Bit Microcontroller, 16 MIPS, 21 I/O, GPIO, -40 to 125 degC, 28-pin SOIC (SO28), Tube; Manufacturer: Microchip; PartNumber: DSPIC33FJ16MC102-E/SO; DatasheetVersion: Rev. E; PackageVersion: C04-052C; PackageReference: SOIC-SO28; PackageDescription: 28-Lead Plastic Small Outline, 17.9 x 7.5 mm Body, 1.27 mm Pitch; Supplier 1: Digi-Key; Supplier Part Number 1: DSPIC33FJ16MC102-E/SO-ND; Supplier 2: Mouser; Supplier Part Number 2: 579-33FJ16MC102ESO; Mounting Technology: Surface Mount; ComponentLink1Description: Manufacturer URL; ComponentLink1URL: http://www.microchip.com; ComponentLink2Description: Datasheet; ComponentLink2URL: http://ww1.microchip.com/downloads/en/DeviceDoc/70652e.pdf; ComponentLink3Description: Package Specification; ComponentLink3URL: http://www.microchip.com/stellent/groups/techpub_sg/documents/packagingspec/en012702.pdf; ComponentLink4Description: Product URL; ComponentLink4URL: http://www.microchip.com/dsPIC33FJ16MC102
footprint MCHP-SOIC-SO28_N (SOIC, 28-Leads, Body 17.9x7.5mm, Pitch 1.27mm, IPC Medium Density)
footprint MCHP-SOIC-SO28_L (SOIC, 28-Leads, Body 17.9x7.5mm, Pitch 1.27mm, IPC High Density)
footprint MCHP-SOIC-SO28_M (SOIC, 28-Leads, Body 17.9x7.5mm, Pitch 1.27mm, IPC Low Density)
pins: 1 ~{MCLR} (in) "Master Clear (Reset) input. This pin is an active-low Reset to the device.", 2 PGED2/AN0/C3INB/C1INA/CTED1/CN2/RA0 (io), 3 PGEC2/AN1/C3INA/C1INB/CTED2/CN3/RA1 (io), 4 PGED1/AN2/C2INA/C1INC/RP0/CN4/RB0 (io), 5 PGEC1/AN3/CVREFIN/CVREFOUT/C2INB/C1IND/RP1/CN5/RB1 (io), 6 AN4/C3INC/C2INC/RP2/CN6/RB2 (io), 7 AN5/C3IND/C2IND/RP3/CN7/RB3 (io), 8 VSS (power) "Ground reference for logic and I/O pins.", 9 OSCI/CLKI/CN30/RA2 (io), 10 OSCO/CLKO/CN29/RA3 (io), 11 PGED3/SOSCI/AN9/RP4/CN1/RB4 (io), 12 PGEC3/SOSCO/AN10/T1CK/CN0/RA4 (io), 13 VDD (power) "Positive supply for peripheral logic and I/O pins.", 14 ~{FLTB1}/ASDA1/RP5/CN27/RB5 (io), 15 ~{FLTA1}/ASCL1/RP6/CN24/RB6 (io), 16 SCK1/INT0/RP7/CN23/RB7 (io), 17 SCL1/SDO1/RP8/CN22/RB8 (io), 18 SDA1/SDI1/RP9/CN21/RB9 (io), 19 VSS (power) "Ground reference for logic and I/O pins.", 20 VCAP "CPU logic filter capacitor connection.", 21 PWM1H3/RP10/CN16/RB10 (io), 22 PWM1L3/RP11/CN15/RB11 (io), 23 PWM1H2/RP12/CN14/RB12 (io), 24 PWM1L2/RP13/CN13/RB13 (io), 25 PWM1H1/RTCC/RP14/CN12/RB14 (io), 26 PWM1L1/RP15/CN11/RB15 (io), 27 AVSS (power) "Ground reference for analog modules. AVSS is connected to VSS in the 18-pin dsPIC33FJXXGP101 and 20-pin dsPIC33FJXXMC101 devices. In all other devices, AVSS is separated from VSS.", 28 AVDD (power) "Positive supply for analog modules. This pin must be connected at all times. AVDD is connected to VDD in the 18-pin dsPIC33FJXXGP101 and 20-pin dsPIC33FJXXMC101 devices. In all other devices, AVDD is separated from VDD."

## DSPIC33FJ16MC102-E/SS
designator U?
16-Bit Microcontroller, 16 MIPS, 21 I/O, GPIO, -40 to 125 degC, 28-pin SSOP (SS28), Tube; Manufacturer: Microchip; PartNumber: DSPIC33FJ16MC102-E/SS; DatasheetVersion: Rev. E; PackageVersion: C04-073B; PackageReference: SSOP-SS28; PackageDescription: 28-Lead Plastic Shrink Small Outline, 10.2 x 5.3 mm Body, 0.65 mm Pitch; Supplier 1: Digi-Key; Supplier Part Number 1: DSPIC33FJ16MC102-E/SS-ND; Supplier 2: Mouser; Supplier Part Number 2: 579-33FJ16MC102ESS; Mounting Technology: Surface Mount; ComponentLink1Description: Manufacturer URL; ComponentLink1URL: http://www.microchip.com; ComponentLink2Description: Datasheet; ComponentLink2URL: http://ww1.microchip.com/downloads/en/DeviceDoc/70652e.pdf; ComponentLink3Description: Package Specification; ComponentLink3URL: http://www.microchip.com/stellent/groups/techpub_sg/documents/packagingspec/en012702.pdf; ComponentLink4Description: Product URL; ComponentLink4URL: http://www.microchip.com/dsPIC33FJ16MC102
footprint MCHP-SSOP-SS28_N (SOP, 28-Leads, Body 10.2x5.3mm, Pitch 0.65mm, IPC Medium Density)
footprint MCHP-SSOP-SS28_L (SOP, 28-Leads, Body 10.2x5.3mm, Pitch 0.65mm, IPC High Density)
footprint MCHP-SSOP-SS28_M (SOP, 28-Leads, Body 10.2x5.3mm, Pitch 0.65mm, IPC Low Density)
pins: 1 ~{MCLR} (in) "Master Clear (Reset) input. This pin is an active-low Reset to the device.", 2 PGED2/AN0/C3INB/C1INA/CTED1/CN2/RA0 (io), 3 PGEC2/AN1/C3INA/C1INB/CTED2/CN3/RA1 (io), 4 PGED1/AN2/C2INA/C1INC/RP0/CN4/RB0 (io), 5 PGEC1/AN3/CVREFIN/CVREFOUT/C2INB/C1IND/RP1/CN5/RB1 (io), 6 AN4/C3INC/C2INC/RP2/CN6/RB2 (io), 7 AN5/C3IND/C2IND/RP3/CN7/RB3 (io), 8 VSS (power) "Ground reference for logic and I/O pins.", 9 OSCI/CLKI/CN30/RA2 (io), 10 OSCO/CLKO/CN29/RA3 (io), 11 PGED3/SOSCI/AN9/RP4/CN1/RB4 (io), 12 PGEC3/SOSCO/AN10/T1CK/CN0/RA4 (io), 13 VDD (power) "Positive supply for peripheral logic and I/O pins.", 14 ~{FLTB1}/ASDA1/RP5/CN27/RB5 (io), 15 ~{FLTA1}/ASCL1/RP6/CN24/RB6 (io), 16 SCK1/INT0/RP7/CN23/RB7 (io), 17 SCL1/SDO1/RP8/CN22/RB8 (io), 18 SDA1/SDI1/RP9/CN21/RB9 (io), 19 VSS (power) "Ground reference for logic and I/O pins.", 20 VCAP "CPU logic filter capacitor connection.", 21 PWM1H3/RP10/CN16/RB10 (io), 22 PWM1L3/RP11/CN15/RB11 (io), 23 PWM1H2/RP12/CN14/RB12 (io), 24 PWM1L2/RP13/CN13/RB13 (io), 25 PWM1H1/RTCC/RP14/CN12/RB14 (io), 26 PWM1L1/RP15/CN11/RB15 (io), 27 AVSS (power) "Ground reference for analog modules. AVSS is connected to VSS in the 18-pin dsPIC33FJXXGP101 and 20-pin dsPIC33FJXXMC101 devices. In all other devices, AVSS is separated from VSS.", 28 AVDD (power) "Positive supply for analog modules. This pin must be connected at all times. AVDD is connected to VDD in the 18-pin dsPIC33FJXXGP101 and 20-pin dsPIC33FJXXMC101 devices. In all other devices, AVDD is separated from VDD."

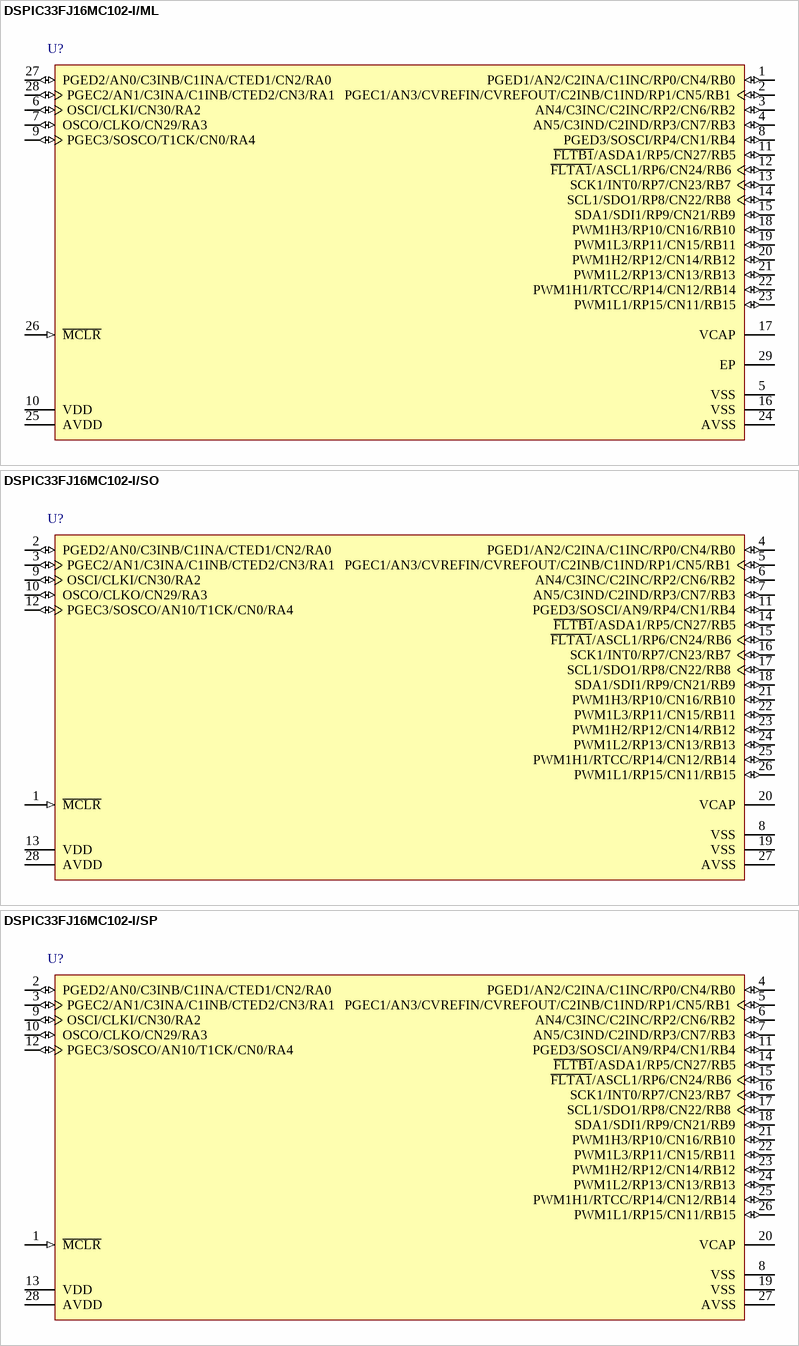
[diagram p21: symbols DSPIC33FJ16MC102-I/ML to DSPIC33FJ16MC102-I/SP]

## DSPIC33FJ16MC102-I/ML
designator U?
16-Bit Microcontroller, 16 MIPS, 21 I/O, GPIO, -40 to 85 degC, 28-pin QFN (ML28), Tube; Manufacturer: Microchip; PartNumber: DSPIC33FJ16MC102-I/ML; DatasheetVersion: Rev. E; PackageVersion: C04-105C; PackageReference: QFN-ML28; PackageDescription: 28-Lead Plastic Quad Flat, 6 x 6 mm Body, 0.65 mm Pitch; Supplier 1: Digi-Key; Supplier Part Number 1: DSPIC33FJ16MC102-I/ML-ND; Supplier 2: Mouser; Supplier Part Number 2: 579-33FJ16MC102IML; Mounting Technology: Surface Mount; ComponentLink1Description: Manufacturer URL; ComponentLink1URL: http://www.microchip.com; ComponentLink2Description: Datasheet; ComponentLink2URL: http://ww1.microchip.com/downloads/en/DeviceDoc/70652e.pdf; ComponentLink3Description: Package Specification; ComponentLink3URL: http://www.microchip.com/stellent/groups/techpub_sg/documents/packagingspec/en012702.pdf; ComponentLink4Description: Product URL; ComponentLink4URL: http://www.microchip.com/dsPIC33FJ16MC102
footprint MCHP-QFN-ML28_N (QFN, 28-Leads, Body 6x6mm, Pitch 0.65mm, Thermal Pad 3.7x3.7mm, IPC Medium Density)
footprint MCHP-QFN-ML28_L (QFN, 28-Leads, Body 6x6mm, Pitch 0.65mm, Thermal Pad 3.7x3.7mm, IPC High Density)
footprint MCHP-QFN-ML28_M (QFN, 28-Leads, Body 6x6mm, Pitch 0.65mm, Thermal Pad 3.7x3.7mm, IPC Low Density)
pins: 1 PGED1/AN2/C2INA/C1INC/RP0/CN4/RB0 (io), 2 PGEC1/AN3/CVREFIN/CVREFOUT/C2INB/C1IND/RP1/CN5/RB1 (io), 3 AN4/C3INC/C2INC/RP2/CN6/RB2 (io), 4 AN5/C3IND/C2IND/RP3/CN7/RB3 (io), 5 VSS (power) "Ground reference for logic and I/O pins.", 6 OSCI/CLKI/CN30/RA2 (io), 7 OSCO/CLKO/CN29/RA3 (io), 8 PGED3/SOSCI/RP4/CN1/RB4 (io), 9 PGEC3/SOSCO/T1CK/CN0/RA4 (io), 10 VDD (power) "Positive supply for peripheral logic and I/O pins.", 11 ~{FLTB1}/ASDA1/RP5/CN27/RB5 (io), 12 ~{FLTA1}/ASCL1/RP6/CN24/RB6 (io), 13 SCK1/INT0/RP7/CN23/RB7 (io), 14 SCL1/SDO1/RP8/CN22/RB8 (io), 15 SDA1/SDI1/RP9/CN21/RB9 (io), 16 VSS (power) "Ground reference for logic and I/O pins.", 17 VCAP "CPU logic filter capacitor connection.", 18 PWM1H3/RP10/CN16/RB10 (io), 19 PWM1L3/RP11/CN15/RB11 (io), 20 PWM1H2/RP12/CN14/RB12 (io), 21 PWM1L2/RP13/CN13/RB13 (io), 22 PWM1H1/RTCC/RP14/CN12/RB14 (io), 23 PWM1L1/RP15/CN11/RB15 (io), 24 AVSS (power) "Ground reference for analog modules. AVSS is connected to VSS in the 18-pin dsPIC33FJXXGP101 and 20-pin dsPIC33FJXXMC101 devices. In all other devices, AVSS is separated from VSS.", 25 AVDD (power) "Positive supply for analog modules. This pin must be connected at all times. AVDD is connected to VDD in the 18-pin dsPIC33FJXXGP101 and 20-pin dsPIC33FJXXMC101 devices. In all other devices, AVDD is separated from VDD.", 26 ~{MCLR} (in) "Master Clear (Reset) input. This pin is an active-low Reset to the device.", 27 PGED2/AN0/C3INB/C1INA/CTED1/CN2/RA0 (io), 28 PGEC2/AN1/C3INA/C1INB/CTED2/CN3/RA1 (io), 29 EP (power) "The metal pad at the bottom of the device is not connected to any pins and is recommended to be connected to VSS externally"

## DSPIC33FJ16MC102-I/SO
designator U?
16-Bit Microcontroller, 16 MIPS, 21 I/O, GPIO, -40 to 85 degC, 28-pin SOIC (SO28), Tube; Manufacturer: Microchip; PartNumber: DSPIC33FJ16MC102-I/SO; DatasheetVersion: Rev. E; PackageVersion: C04-052C; PackageReference: SOIC-SO28; PackageDescription: 28-Lead Plastic Small Outline, 17.9 x 7.5 mm Body, 1.27 mm Pitch; Supplier 1: Digi-Key; Supplier Part Number 1: DSPIC33FJ16MC102-I/SO-ND; Supplier 2: Farnell; Supplier Part Number 2: 2077456; Supplier 3: Newark; Supplier Part Number 3: 13T3165; Supplier 4: Mouser; Supplier Part Number 4: 579-33FJ16MC102ISO; Mounting Technology: Surface Mount; ComponentLink1Description: Manufacturer URL; ComponentLink1URL: http://www.microchip.com; ComponentLink2Description: Datasheet; ComponentLink2URL: http://ww1.microchip.com/downloads/en/DeviceDoc/70652e.pdf; ComponentLink3Description: Package Specification; ComponentLink3URL: http://www.microchip.com/stellent/groups/techpub_sg/documents/packagingspec/en012702.pdf; ComponentLink4Description: Product URL; ComponentLink4URL: http://www.microchip.com/dsPIC33FJ16MC102
footprint MCHP-SOIC-SO28_N (SOIC, 28-Leads, Body 17.9x7.5mm, Pitch 1.27mm, IPC Medium Density)
footprint MCHP-SOIC-SO28_L (SOIC, 28-Leads, Body 17.9x7.5mm, Pitch 1.27mm, IPC High Density)
footprint MCHP-SOIC-SO28_M (SOIC, 28-Leads, Body 17.9x7.5mm, Pitch 1.27mm, IPC Low Density)
pins: 1 ~{MCLR} (in) "Master Clear (Reset) input. This pin is an active-low Reset to the device.", 2 PGED2/AN0/C3INB/C1INA/CTED1/CN2/RA0 (io), 3 PGEC2/AN1/C3INA/C1INB/CTED2/CN3/RA1 (io), 4 PGED1/AN2/C2INA/C1INC/RP0/CN4/RB0 (io), 5 PGEC1/AN3/CVREFIN/CVREFOUT/C2INB/C1IND/RP1/CN5/RB1 (io), 6 AN4/C3INC/C2INC/RP2/CN6/RB2 (io), 7 AN5/C3IND/C2IND/RP3/CN7/RB3 (io), 8 VSS (power) "Ground reference for logic and I/O pins.", 9 OSCI/CLKI/CN30/RA2 (io), 10 OSCO/CLKO/CN29/RA3 (io), 11 PGED3/SOSCI/AN9/RP4/CN1/RB4 (io), 12 PGEC3/SOSCO/AN10/T1CK/CN0/RA4 (io), 13 VDD (power) "Positive supply for peripheral logic and I/O pins.", 14 ~{FLTB1}/ASDA1/RP5/CN27/RB5 (io), 15 ~{FLTA1}/ASCL1/RP6/CN24/RB6 (io), 16 SCK1/INT0/RP7/CN23/RB7 (io), 17 SCL1/SDO1/RP8/CN22/RB8 (io), 18 SDA1/SDI1/RP9/CN21/RB9 (io), 19 VSS (power) "Ground reference for logic and I/O pins.", 20 VCAP "CPU logic filter capacitor connection.", 21 PWM1H3/RP10/CN16/RB10 (io), 22 PWM1L3/RP11/CN15/RB11 (io), 23 PWM1H2/RP12/CN14/RB12 (io), 24 PWM1L2/RP13/CN13/RB13 (io), 25 PWM1H1/RTCC/RP14/CN12/RB14 (io), 26 PWM1L1/RP15/CN11/RB15 (io), 27 AVSS (power) "Ground reference for analog modules. AVSS is connected to VSS in the 18-pin dsPIC33FJXXGP101 and 20-pin dsPIC33FJXXMC101 devices. In all other devices, AVSS is separated from VSS.", 28 AVDD (power) "Positive supply for analog modules. This pin must be connected at all times. AVDD is connected to VDD in the 18-pin dsPIC33FJXXGP101 and 20-pin dsPIC33FJXXMC101 devices. In all other devices, AVDD is separated from VDD."

## DSPIC33FJ16MC102-I/SP
designator U?
16-Bit Microcontroller, 16 MIPS, 21 I/O, GPIO, -40 to 85 degC, 28-pin SPDIP (SP28), Tube; Manufacturer: Microchip; PartNumber: DSPIC33FJ16MC102-I/SP; DatasheetVersion: Rev. E; PackageVersion: C04-070B; PackageReference: SPDIP-SP28; PackageDescription: 28-Lead Plastic Dual In-Line, 34.86 x 6.79 mm Body, 2.54 mm Pitch; Supplier 1: Digi-Key; Supplier Part Number 1: DSPIC33FJ16MC102-I/SP-ND; Supplier 2: Farnell; Supplier Part Number 2: 2045287; Supplier 3: Newark; Supplier Part Number 3: 13T3166; Supplier 4: Mouser; Supplier Part Number 4: 579-33FJ16MC102ISP; Mounting Technology: Through Hole; ComponentLink1Description: Manufacturer URL; ComponentLink1URL: http://www.microchip.com; ComponentLink2Description: Datasheet; ComponentLink2URL: http://ww1.microchip.com/downloads/en/DeviceDoc/70652e.pdf; ComponentLink3Description: Package Specification; ComponentLink3URL: http://www.microchip.com/stellent/groups/techpub_sg/documents/packagingspec/en012702.pdf; ComponentLink4Description: Product URL; ComponentLink4URL: http://www.microchip.com/dsPIC33FJ16MC102
footprint MCHP-SPDIP-SP28 (DIP, 28-Leads, Body 34.86x6.79mm, Pitch 2.54mm)
pins: 1 ~{MCLR} (in) "Master Clear (Reset) input. This pin is an active-low Reset to the device.", 2 PGED2/AN0/C3INB/C1INA/CTED1/CN2/RA0 (io), 3 PGEC2/AN1/C3INA/C1INB/CTED2/CN3/RA1 (io), 4 PGED1/AN2/C2INA/C1INC/RP0/CN4/RB0 (io), 5 PGEC1/AN3/CVREFIN/CVREFOUT/C2INB/C1IND/RP1/CN5/RB1 (io), 6 AN4/C3INC/C2INC/RP2/CN6/RB2 (io), 7 AN5/C3IND/C2IND/RP3/CN7/RB3 (io), 8 VSS (power) "Ground reference for logic and I/O pins.", 9 OSCI/CLKI/CN30/RA2 (io), 10 OSCO/CLKO/CN29/RA3 (io), 11 PGED3/SOSCI/AN9/RP4/CN1/RB4 (io), 12 PGEC3/SOSCO/AN10/T1CK/CN0/RA4 (io), 13 VDD (power) "Positive supply for peripheral logic and I/O pins.", 14 ~{FLTB1}/ASDA1/RP5/CN27/RB5 (io), 15 ~{FLTA1}/ASCL1/RP6/CN24/RB6 (io), 16 SCK1/INT0/RP7/CN23/RB7 (io), 17 SCL1/SDO1/RP8/CN22/RB8 (io), 18 SDA1/SDI1/RP9/CN21/RB9 (io), 19 VSS (power) "Ground reference for logic and I/O pins.", 20 VCAP "CPU logic filter capacitor connection.", 21 PWM1H3/RP10/CN16/RB10 (io), 22 PWM1L3/RP11/CN15/RB11 (io), 23 PWM1H2/RP12/CN14/RB12 (io), 24 PWM1L2/RP13/CN13/RB13 (io), 25 PWM1H1/RTCC/RP14/CN12/RB14 (io), 26 PWM1L1/RP15/CN11/RB15 (io), 27 AVSS (power) "Ground reference for analog modules. AVSS is connected to VSS in the 18-pin dsPIC33FJXXGP101 and 20-pin dsPIC33FJXXMC101 devices. In all other devices, AVSS is separated from VSS.", 28 AVDD (power) "Positive supply for analog modules. This pin must be connected at all times. AVDD is connected to VDD in the 18-pin dsPIC33FJXXGP101 and 20-pin dsPIC33FJXXMC101 devices. In all other devices, AVDD is separated from VDD."

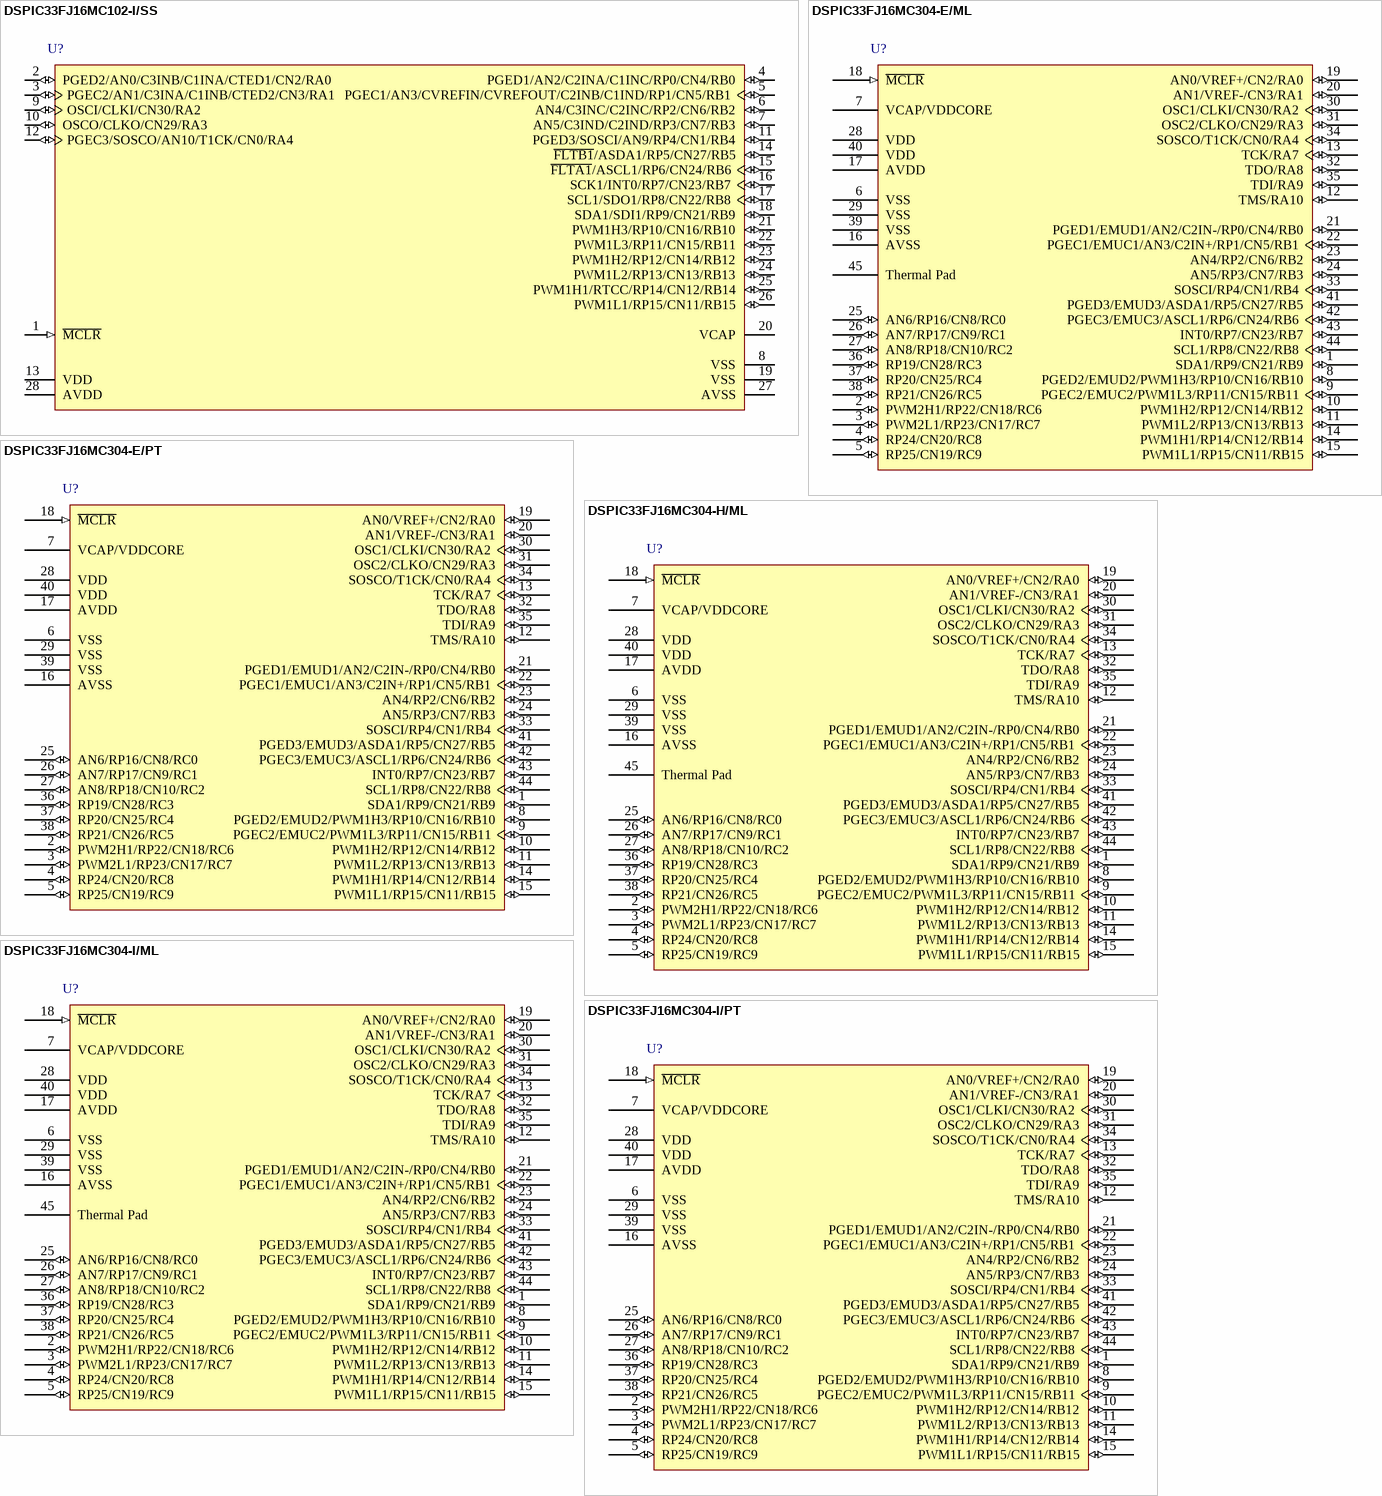
[diagram p22: symbols DSPIC33FJ16MC102-I/SS to DSPIC33FJ16MC304-I/PT]

## DSPIC33FJ16MC102-I/SS
designator U?
16-Bit Microcontroller, 16 MIPS, 21 I/O, GPIO, -40 to 85 degC, 28-pin SSOP (SS28), Tube; Manufacturer: Microchip; PartNumber: DSPIC33FJ16MC102-I/SS; DatasheetVersion: Rev. E; PackageVersion: C04-073B; PackageReference: SSOP-SS28; PackageDescription: 28-Lead Plastic Shrink Small Outline, 10.2 x 5.3 mm Body, 0.65 mm Pitch; Supplier 1: Digi-Key; Supplier Part Number 1: DSPIC33FJ16MC102-I/SS-ND; Supplier 2: Farnell; Supplier Part Number 2: 2077457; Supplier 3: Mouser; Supplier Part Number 3: 579-33FJ16MC102ISS; Mounting Technology: Surface Mount; ComponentLink1Description: Manufacturer URL; ComponentLink1URL: http://www.microchip.com; ComponentLink2Description: Datasheet; ComponentLink2URL: http://ww1.microchip.com/downloads/en/DeviceDoc/70652e.pdf; ComponentLink3Description: Package Specification; ComponentLink3URL: http://www.microchip.com/stellent/groups/techpub_sg/documents/packagingspec/en012702.pdf; ComponentLink4Description: Product URL; ComponentLink4URL: http://www.microchip.com/dsPIC33FJ16MC102
footprint MCHP-SSOP-SS28_N (SOP, 28-Leads, Body 10.2x5.3mm, Pitch 0.65mm, IPC Medium Density)
footprint MCHP-SSOP-SS28_L (SOP, 28-Leads, Body 10.2x5.3mm, Pitch 0.65mm, IPC High Density)
footprint MCHP-SSOP-SS28_M (SOP, 28-Leads, Body 10.2x5.3mm, Pitch 0.65mm, IPC Low Density)
pins: 1 ~{MCLR} (in) "Master Clear (Reset) input. This pin is an active-low Reset to the device.", 2 PGED2/AN0/C3INB/C1INA/CTED1/CN2/RA0 (io), 3 PGEC2/AN1/C3INA/C1INB/CTED2/CN3/RA1 (io), 4 PGED1/AN2/C2INA/C1INC/RP0/CN4/RB0 (io), 5 PGEC1/AN3/CVREFIN/CVREFOUT/C2INB/C1IND/RP1/CN5/RB1 (io), 6 AN4/C3INC/C2INC/RP2/CN6/RB2 (io), 7 AN5/C3IND/C2IND/RP3/CN7/RB3 (io), 8 VSS (power) "Ground reference for logic and I/O pins.", 9 OSCI/CLKI/CN30/RA2 (io), 10 OSCO/CLKO/CN29/RA3 (io), 11 PGED3/SOSCI/AN9/RP4/CN1/RB4 (io), 12 PGEC3/SOSCO/AN10/T1CK/CN0/RA4 (io), 13 VDD (power) "Positive supply for peripheral logic and I/O pins.", 14 ~{FLTB1}/ASDA1/RP5/CN27/RB5 (io), 15 ~{FLTA1}/ASCL1/RP6/CN24/RB6 (io), 16 SCK1/INT0/RP7/CN23/RB7 (io), 17 SCL1/SDO1/RP8/CN22/RB8 (io), 18 SDA1/SDI1/RP9/CN21/RB9 (io), 19 VSS (power) "Ground reference for logic and I/O pins.", 20 VCAP "CPU logic filter capacitor connection.", 21 PWM1H3/RP10/CN16/RB10 (io), 22 PWM1L3/RP11/CN15/RB11 (io), 23 PWM1H2/RP12/CN14/RB12 (io), 24 PWM1L2/RP13/CN13/RB13 (io), 25 PWM1H1/RTCC/RP14/CN12/RB14 (io), 26 PWM1L1/RP15/CN11/RB15 (io), 27 AVSS (power) "Ground reference for analog modules. AVSS is connected to VSS in the 18-pin dsPIC33FJXXGP101 and 20-pin dsPIC33FJXXMC101 devices. In all other devices, AVSS is separated from VSS.", 28 AVDD (power) "Positive supply for analog modules. This pin must be connected at all times. AVDD is connected to VDD in the 18-pin dsPIC33FJXXGP101 and 20-pin dsPIC33FJXXMC101 devices. In all other devices, AVDD is separated from VDD."

## DSPIC33FJ16MC304-E/ML
designator U?
High-Performance 16-bit Digital Signal Controller, 16 KB Flash, 2 KB RAM, 44-Pin QFN, Extended High Temperature; Manufacturer: Microchip; PartNumber: DSPIC33FJ16MC304-E/ML; DatasheetVersion: revF, Nov-2009; PackageVersion: revBB, Aug-2009; PackageReference: QFN-ML44; PackageDescription: 44-Lead Plastic Quad Flat, No Lead Package (ML) - 8x8 mm Body [QFN]; Supplier 1: Digi-Key; Supplier Part Number 1: DSPIC33FJ16MC304-E/ML-ND; Supplier 2: Mouser; Supplier Part Number 2: 579-DSPIC316MC304EML; Mounting Technology: Surface Mount; Code_JEDEC: MO-220; Code_IPC: QFN65P800X800-44V2; ComponentLink1Description: Manufacturer URL; ComponentLink1URL: http://www.microchip.com/; ComponentLink2Description: Datasheet; ComponentLink2URL: http://ww1.microchip.com/downloads/en/DeviceDoc/70283F.pdf; ComponentLink3Description: Package Specification; ComponentLink3URL: http://www.microchip.com/stellent/groups/techpub_sg/documents/packagingspec/en012702.pdf
footprint QFN-ML44_N (QFN, 44-Leads, Body 8x8mm, Pitch 0.65mm, Thermal Pad 6.8x6.8mm, IPC Medium Density)
footprint QFN-ML44_L (QFN, 44-Leads, Body 8x8mm, Pitch 0.65mm, Thermal Pad 6.8x6.8mm, IPC High Density)
footprint QFN-ML44_M (QFN, 44-Leads, Body 8x8mm, Pitch 0.65mm, Thermal Pad 6.8x6.8mm, IPC Low Density)
pins: 1 SDA1/RP9/CN21/RB9 (io), 2 PWM2H1/RP22/CN18/RC6 (io), 3 PWM2L1/RP23/CN17/RC7 (io), 4 RP24/CN20/RC8 (io), 5 RP25/CN19/RC9 (io), 6 VSS (power), 7 VCAP/VDDCORE (power), 8 PGED2/EMUD2/PWM1H3/RP10/CN16/RB10 (io), 9 PGEC2/EMUC2/PWM1L3/RP11/CN15/RB11 (io), 10 PWM1H2/RP12/CN14/RB12 (io), 11 PWM1L2/RP13/CN13/RB13 (io), 12 TMS/RA10 (io), 13 TCK/RA7 (io), 14 PWM1H1/RP14/CN12/RB14 (io), 15 PWM1L1/RP15/CN11/RB15 (io), 16 AVSS (power), 17 AVDD (power), 18 ~{MCLR} (in), 19 AN0/VREF+/CN2/RA0 (io), 20 AN1/VREF-/CN3/RA1 (io), 21 PGED1/EMUD1/AN2/C2IN-/RP0/CN4/RB0 (io), 22 PGEC1/EMUC1/AN3/C2IN+/RP1/CN5/RB1 (io), 23 AN4/RP2/CN6/RB2 (io), 24 AN5/RP3/CN7/RB3 (io), 25 AN6/RP16/CN8/RC0 (io), 26 AN7/RP17/CN9/RC1 (io), 27 AN8/RP18/CN10/RC2 (io), 28 VDD (power), 29 VSS (power), 30 OSC1/CLKI/CN30/RA2 (io), 31 OSC2/CLKO/CN29/RA3 (io), 32 TDO/RA8 (io), 33 SOSCI/RP4/CN1/RB4 (io), 34 SOSCO/T1CK/CN0/RA4 (io), 35 TDI/RA9 (io), 36 RP19/CN28/RC3 (io), 37 RP20/CN25/RC4 (io), 38 RP21/CN26/RC5 (io), 39 VSS (power), 40 VDD (power), 41 PGED3/EMUD3/ASDA1/RP5/CN27/RB5 (io), 42 PGEC3/EMUC3/ASCL1/RP6/CN24/RB6 (io), 43 INT0/RP7/CN23/RB7 (io), 44 SCL1/RP8/CN22/RB8 (io), 45 Thermal Pad

## DSPIC33FJ16MC304-E/PT
designator U?
High-Performance 16-bit Digital Signal Controller, 16 KB Flash, 2 KB RAM, 44-Pin TQFP, Extended High Temperature; Manufacturer: Microchip; PartNumber: DSPIC33FJ16MC304-E/PT; DatasheetVersion: revF, Nov-2009; PackageVersion: revBB, Aug-2009; PackageReference: TQFP-PT44; PackageDescription: 44-Lead Plastic Thin Quad Flatpack (PT) - 10x10x1mm Body, 2.00mm [TQFP]; Supplier 1: Digi-Key; Supplier Part Number 1: DSPIC33FJ16MC304-E/PT-ND; Supplier 2: Newark; Supplier Part Number 2: 39M8156; Supplier 3: Mouser; Supplier Part Number 3: 579-DSPIC316MC304EPT; Mounting Technology: Surface Mount; Code_JEDEC: MS-026; ComponentLink1Description: Manufacturer URL; ComponentLink1URL: http://www.microchip.com/; ComponentLink2Description: Datasheet; ComponentLink2URL: http://ww1.microchip.com/downloads/en/DeviceDoc/70283F.pdf; ComponentLink3Description: Package Specification; ComponentLink3URL: http://www.microchip.com/stellent/groups/techpub_sg/documents/packagingspec/en012702.pdf
footprint TQFP-PT44_N (Thin QFP, 44-Leads, Body 10x10mm, Pitch 0.8mm, IPC Medium Density)
footprint TQFP-PT44_L (Thin QFP, 44-Leads, Body 10x10mm, Pitch 0.8mm, IPC High Density)
footprint TQFP-PT44_M (Thin QFP, 44-Leads, Body 10x10mm, Pitch 0.8mm, IPC Low Density)
pins: 1 SDA1/RP9/CN21/RB9 (io), 2 PWM2H1/RP22/CN18/RC6 (io), 3 PWM2L1/RP23/CN17/RC7 (io), 4 RP24/CN20/RC8 (io), 5 RP25/CN19/RC9 (io), 6 VSS (power), 7 VCAP/VDDCORE (power), 8 PGED2/EMUD2/PWM1H3/RP10/CN16/RB10 (io), 9 PGEC2/EMUC2/PWM1L3/RP11/CN15/RB11 (io), 10 PWM1H2/RP12/CN14/RB12 (io), 11 PWM1L2/RP13/CN13/RB13 (io), 12 TMS/RA10 (io), 13 TCK/RA7 (io), 14 PWM1H1/RP14/CN12/RB14 (io), 15 PWM1L1/RP15/CN11/RB15 (io), 16 AVSS (power), 17 AVDD (power), 18 ~{MCLR} (in), 19 AN0/VREF+/CN2/RA0 (io), 20 AN1/VREF-/CN3/RA1 (io), 21 PGED1/EMUD1/AN2/C2IN-/RP0/CN4/RB0 (io), 22 PGEC1/EMUC1/AN3/C2IN+/RP1/CN5/RB1 (io), 23 AN4/RP2/CN6/RB2 (io), 24 AN5/RP3/CN7/RB3 (io), 25 AN6/RP16/CN8/RC0 (io), 26 AN7/RP17/CN9/RC1 (io), 27 AN8/RP18/CN10/RC2 (io), 28 VDD (power), 29 VSS (power), 30 OSC1/CLKI/CN30/RA2 (io), 31 OSC2/CLKO/CN29/RA3 (io), 32 TDO/RA8 (io), 33 SOSCI/RP4/CN1/RB4 (io), 34 SOSCO/T1CK/CN0/RA4 (io), 35 TDI/RA9 (io), 36 RP19/CN28/RC3 (io), 37 RP20/CN25/RC4 (io), 38 RP21/CN26/RC5 (io), 39 VSS (power), 40 VDD (power), 41 PGED3/EMUD3/ASDA1/RP5/CN27/RB5 (io), 42 PGEC3/EMUC3/ASCL1/RP6/CN24/RB6 (io), 43 INT0/RP7/CN23/RB7 (io), 44 SCL1/RP8/CN22/RB8 (io)